# EAGLE library part MOSFET-NPCHANNEL_DUAL (library SparkFun-DiscreteSemi)
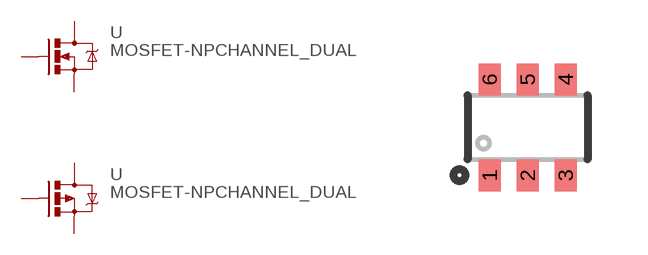
[diagram p12: symbol with the pads of SOT26; footprint SOT26]

Designator prefix -

## MOSFET-NPCHANNEL_DUAL  [SOT26]
1  G1  pas
2  S2  pas
3  G2  pas
4  D2  pas
5  S1  pas
6  D1  pas

## Footprint SOT26 (pad centres in mm)
Footprint for SOT-26 part DMP2240UDM
smd 0.55 x 0.8: 1 -0.95,-1.2; 2 0,-1.2; 3 0.95,-1.2; 4 0.95,1.2; 5 0,1.2; 6 -0.95,1.2